# Altium footprint library Footprintovi.PcbLib: 5 footprints
Each footprint in its own frame and in the unit in brackets; x right, y up, seen from the top. Pads: shape width x height; smd on the part's side, far side on the other; paste and mask are expansions set on the pad; w line width, h text height; cw(c..) or ccw(c..) is an arc to the next point about the centre after c.
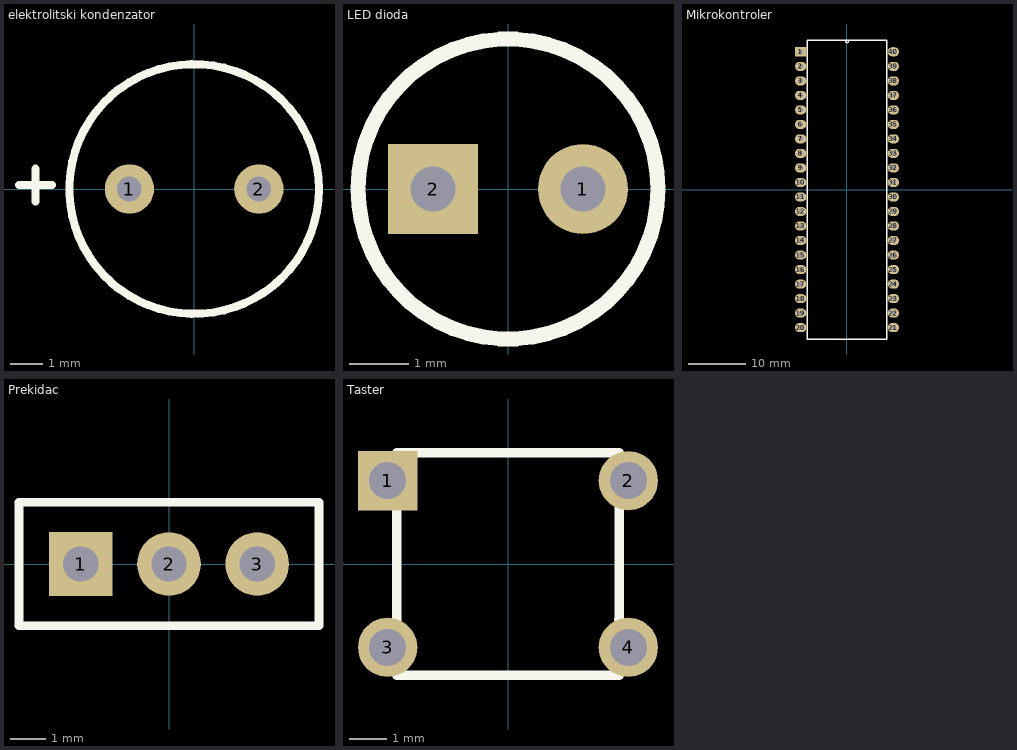
[diagram p0: the footprints below, top view; thin cyan lines are the x and y axes]

## elektrolitski kondenzator [mil]
pads (2):
  round 60 hole 30: 1(-78.74,0) 2(78.74,0)
Top Overlay:
  circle w10: c0,0 r151.89
  lines w10: -213.07,4.72 -173.07,4.72 ; -193.07,-15.28 -193.07,24.72

## LED dioda [mil]
pads (2):
  round 60 hole 30: 1(50,0)
  rect 60x60 hole 30: 2(-50,0)
Top Overlay:
  circle w10: c0,0 r100

## Mikrokontroler [mm]
pads (40):
  rect 2x1.6 hole 0.8: 1(-8.11,24.14)
  oval 2x1.6 hole 0.8: 2(-8.11,21.6) 3(-8.11,19.06) 4(-8.11,16.52) 5(-8.11,13.98) 6(-8.11,11.44) 7(-8.11,8.9) 8(-8.11,6.36) 9(-8.11,3.82) 10(-8.11,1.28) 11(-8.11,-1.26) 12(-8.11,-3.8) 13(-8.11,-6.34) 14(-8.11,-8.88) 15(-8.11,-11.42) 16(-8.11,-13.96) 17(-8.11,-16.5) 18(-8.11,-19.04) 19(-8.11,-21.58) 20(-8.11,-24.12) 21(8.11,-24.12) 22(8.11,-21.58) 23(8.11,-19.04) 24(8.11,-16.5) 25(8.11,-13.96) 26(8.11,-11.42) 27(8.11,-8.88) 28(8.11,-6.34) 29(8.11,-3.8) 30(8.11,-1.26) 31(8.11,1.28) 32(8.11,3.82) 33(8.11,6.36) 34(8.11,8.9) 35(8.11,11.44) 36(8.11,13.98) 37(8.11,16.52) 38(8.11,19.06) 39(8.11,21.6) 40(8.11,24.14)
Top Overlay:
  lines w0.152: -0.305,26.14 ccw(c0,26.07) 0.305,26.14
  lines w0.254: -6.92,-26.12 6.92,-26.12 6.92,0 6.92,26.14 -6.92,26.14 -6.92,0 -6.92,-26.12

## Prekidac [mm]
pads (3):
  rect 1.8x1.8 hole 1: 1(-2.5,0)
  round 1.8 hole 1 paste+0: 2(0,0)
  round 1.8 hole 1: 3(2.5,0)
Top Overlay:
  lines w0.254: -4.25,-1.75 4.25,-1.75 4.25,1.75 0,1.75 -4.25,1.75 -4.25,-1.75

## Taster [mm]
pads (4):
  rect 1.6x1.6 hole 1: 1(-3.25,2.25)
  round 1.6 hole 1: 2(3.25,2.25) 3(-3.25,-2.25) 4(3.25,-2.25)
Top Overlay:
  lines w0.254: -3,-3 3,-3 ; -3,-1.5 -3,1.5 ; -3,3 0,3 3,3 ; 2.99,-1.49 3,-1.48 3,1.5